# EAGLE library part PCA9555A_TSSOP24 (library femtoBus)
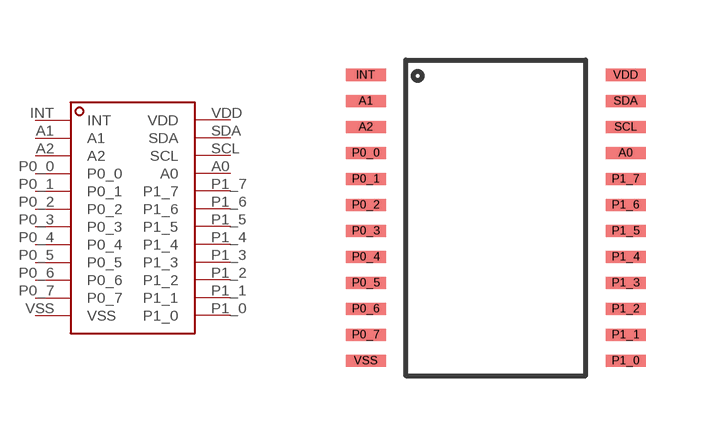
[diagram p0: symbol with the pads of PCA9555A_TSSOP24; footprint PCA9555A_TSSOP24]

Designator prefix -

## PCA9555A_TSSOP24  [PCA9555A_TSSOP24]
A0  A0
A1  A1
A2  A2
INT  INT
P0_0  P0_0
P0_1  P0_1
P0_2  P0_2
P0_3  P0_3
P0_4  P0_4
P0_5  P0_5
P0_6  P0_6
P0_7  P0_7
P1_0  P1_0
P1_1  P1_1
P1_2  P1_2
P1_3  P1_3
P1_4  P1_4
P1_5  P1_5
P1_6  P1_6
P1_7  P1_7
SCL  SCL
SDA  SDA
VDD  VDD
VSS  VSS

## Footprint PCA9555A_TSSOP24 (pad centres in mm)
NXP PCA9555A Low-voltage 16-bit I2C-bus I/O port with interrupt and weak pull-up. TSSOP24 package.
smd 1 x 0.3: A0 5.5,5.575; A1 -1,6.875; A2 -1,6.225; INT -1,7.525; P0_0 -1,5.575; P0_1 -1,4.925; P0_2 -1,4.275; P0_3 -1,3.625; P0_4 -1,2.975; P0_5 -1,2.325; P0_6 -1,1.675; P0_7 -1,1.025; P1_0 5.5,0.375; P1_1 5.5,1.025; P1_2 5.5,1.675; P1_3 5.5,2.325; P1_4 5.5,2.975; P1_5 5.5,3.625; P1_6 5.5,4.275; P1_7 5.5,4.925; SCL 5.5,6.225; SDA 5.5,6.875; VDD 5.5,7.525; VSS -1,0.375